# Altium footprint library Seeed-OPL-sensor.PCBLIB: 57 footprints (part 2 of 4)
Each footprint in its own frame and in the unit in brackets; x right, y up, seen from the top. Pads: shape width x height; smd on the part's side, far side on the other; paste and mask are expansions set on the pad; w line width, h text height; cw(c..) or ccw(c..) is an arc to the next point about the centre after c.
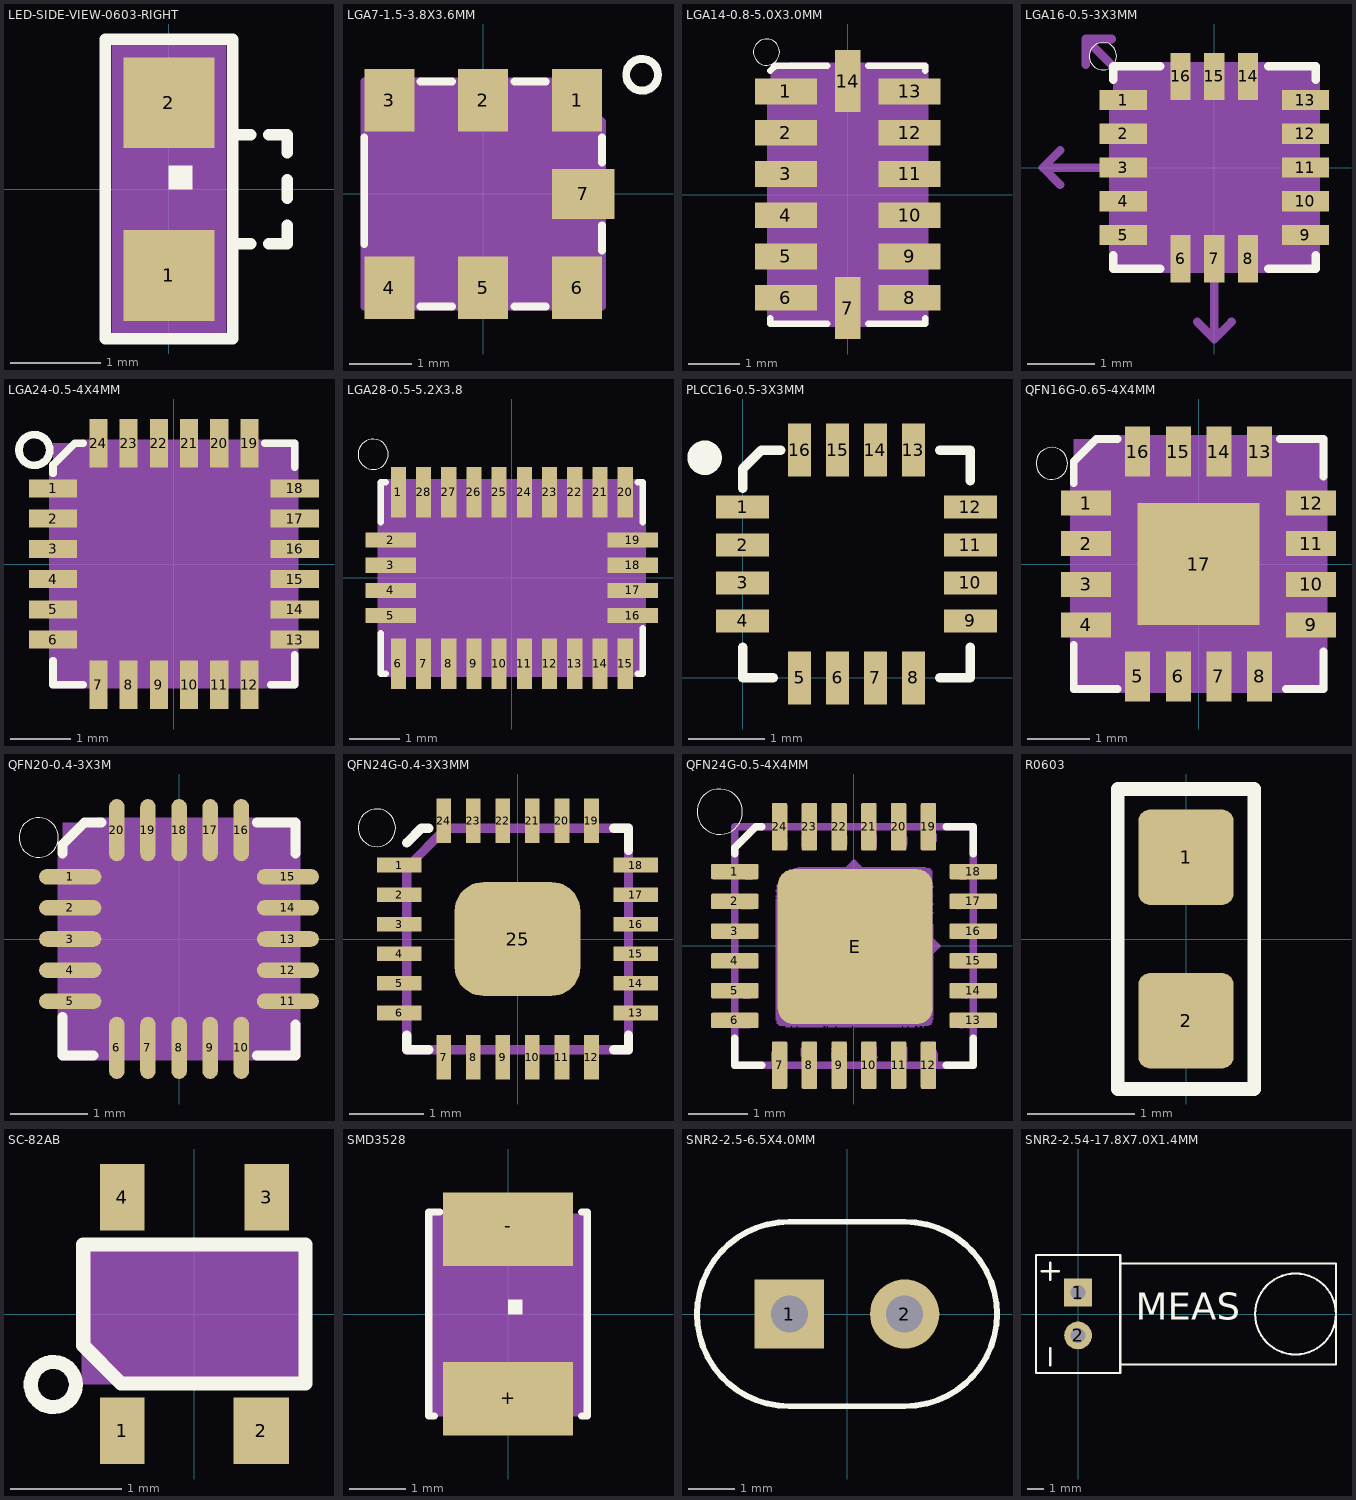
[diagram p1: the footprints below, top view; thin cyan lines are the x and y axes]

## LED-SIDE-VIEW-0603-RIGHT [mm]
pads (2):
  rect 1x1 smd: 1(0,-0.95) 2(0,0.95)
Top Overlay:
  region: 0,0 0.254,0 0.254,0.254 0,0.254
  lines w0.127: 0.7,-0.6 0.9,-0.6 ; 0.7,0.6 0.9,0.6 ; 1.1,-0.6 1.3,-0.6 1.3,-0.4 ; 1.1,0.6 1.3,0.6 1.3,0.4 ; 1.3,-0.1 1.3,0.1 ; -0.7,-1.65 -0.7,1.65 0.7,1.651 0.7,-1.65 -0.7,-1.65
Mechanical 27:
  region: 0.635,-1.651 0.635,1.651 -0.635,1.651 -0.635,-1.651

## LGA7-1.5-3.8X3.6MM [mm]
pads (7):
  rect 0.8x1 smd: 1(1.5,1.5) 2(0,1.5) 3(-1.5,1.5) 4(-1.5,-1.5) 5(0,-1.5) 6(1.5,-1.5)
  rect 1x0.8 smd: 7(1.6,0)
Top Overlay:
  circle w0.127: c2.54,1.905 r0.254
  lines w0.127: -1.9,-0.8 -1.9,0.9 ; -1,-1.8 -0.5,-1.8 ; -1,1.8 -0.5,1.8 ; 0.5,-1.8 1,-1.8 ; 0.5,1.8 1,1.8 ; 1.9,-0.9 1.9,-0.5 ; 1.9,0.5 1.9,0.9
Mechanical 16:
  lines w0.127: -1.9,-1.8 1.9,-1.8 1.9,1.155 1.256,1.8 -1.9,1.8 -1.9,-1.8
Mechanical 27:
  rectangle: -1.9,-1.8 1.9,1.8

## LGA14-0.8-5.0X3.0MM [mm]
pads (14):
  rect 1.2x0.5 smd: 1(-1.2,2) 2(-1.2,1.2) 3(-1.2,0.4) 4(-1.2,-0.4) 5(-1.2,-1.2) 6(-1.2,-2) 8(1.2,-2) 9(1.2,-1.2) 10(1.2,-0.4) 11(1.2,0.4) 12(1.2,1.2) 13(1.2,2)
  rect 0.5x1.2 smd: 7(0,-2.2) 14(0,2.2)
Top Overlay:
  circle w0: c-1.575,2.762 r0.254
  lines w0.127: -1.5,-2.4 -1.5,-2.5 -0.4,-2.5 ; -1.5,2.4 -1.4,2.5 -0.4,2.5 ; 0.4,-2.5 1.5,-2.5 1.5,-2.4 ; 0.4,2.5 1.5,2.5 1.5,2.4
Mechanical 16:
  lines w0.127: -1.5,-2.5 -1.5,2.084 -1.084,2.5 1.5,2.5 1.5,-2.5 -1.5,-2.5
Mechanical 27:
  rectangle: -1.5,-2.5 1.5,2.5

## LGA16-0.5-3X3MM [mm]
pads (16):
  rect 0.7x0.3 smd: 1(-1.35,1) 2(-1.35,0.5) 3(-1.35,0) 4(-1.35,-0.5) 5(-1.35,-1) 9(1.35,-1) 10(1.35,-0.5) 11(1.35,0) 12(1.35,0.5) 13(1.35,1)
  rect 0.3x0.7 smd: 6(-0.5,-1.35) 7(0,-1.35) 8(0.5,-1.35) 14(0.5,1.35) 15(0,1.35) 16(-0.5,1.35)
Top Overlay:
  circle w0: c-1.651,1.651 r0.203
  lines w0.127: -1.5,-1.3 -1.5,-1.5 -0.8,-1.5 ; -1.5,1.3 -1.5,1.5 -0.8,1.5 ; 0.8,-1.5 1.5,-1.5 1.5,-1.3 ; 0.8,1.5 1.5,1.5 1.5,1.3
Mechanical 14:
  lines w0.127: -2.286,-0.254 -2.54,0 ; -2.286,0.254 -2.54,0 ; -1.905,1.524 -1.905,1.905 ; -1.524,1.905 -1.905,1.905 ; -0.254,-2.286 0,-2.54 ; 0.254,-2.286 0,-2.54 ; -2.54,0 0,0 ; -1.905,1.905 0,0 ; 0,-2.54 0,0
  text "X" at -2.54,-1.27 h1.38
  text "Y" at 0.635,-3.175 h1.38
  text "Z" at -3.27,1.905 h1.38
Mechanical 16:
  lines w0.127: -1.5,-1.5 -1.5,0.964 -0.964,1.5 1.5,1.5 1.5,-1.5 -1.5,-1.5
Mechanical 27:
  rectangle: -1.5,-1.5 1.5,1.5

## LGA24-0.5-4X4MM [mm]
pads (24):
  rect 0.8x0.3 smd: 1(-2,1.25) 2(-2,0.75) 3(-2,0.25) 4(-2,-0.25) 5(-2,-0.75) 6(-2,-1.25) 13(2,-1.25) 14(2,-0.75) 15(2,-0.25) 16(2,0.25) 17(2,0.75) 18(2,1.25)
  rect 0.3x0.8 smd: 7(-1.25,-2) 8(-0.75,-2) 9(-0.25,-2) 10(0.25,-2) 11(0.75,-2) 12(1.25,-2) 19(1.25,2) 20(0.75,2) 21(0.25,2) 22(-0.25,2) 23(-0.75,2) 24(-1.25,2)
Top Overlay:
  circle w0.127: c-2.309,1.886 r0.254
  lines w0.127: -2,-1.6 -2,-2 -1.5,-2 ; -2,1.5 -2,1.64 -1.64,2 -1.5,2 ; 1.5,2 2,2 2,1.6 ; 1.6,-2 2,-2 2,-1.5
Mechanical 16:
  lines w0.127: -2,-2 -2,1.5 -1.5,2 2,2 2,-2 -2,-2
Mechanical 27:
  rectangle: -2,-2 2,2

## LGA28-0.5-5.2X3.8 [mm]
pads (28):
  rect 0.3x1 smd: 1(-2.25,1.7) 6(-2.25,-1.7) 7(-1.75,-1.7) 8(-1.25,-1.7) 9(-0.75,-1.7) 10(-0.25,-1.7) 11(0.25,-1.7) 12(0.75,-1.7) 13(1.25,-1.7) 14(1.75,-1.7) 15(2.25,-1.7) 20(2.25,1.7) 21(1.75,1.7) 22(1.25,1.7) 23(0.75,1.7) 24(0.25,1.7) 25(-0.25,1.7) 26(-0.75,1.7) 27(-1.25,1.7) 28(-1.75,1.7)
  rect 1x0.3 smd: 2(-2.4,0.75) 3(-2.4,0.25) 4(-2.4,-0.25) 5(-2.4,-0.75) 16(2.4,-0.75) 17(2.4,-0.25) 18(2.4,0.25) 19(2.4,0.75)
Top Overlay:
  circle w0: c-2.75,2.45 r0.3
  lines w0.127: -2.6,-1.1 -2.6,-1.9 -2.5,-1.9 ; -2.6,1.1 -2.6,1.9 -2.5,1.9 ; 2.5,-1.9 2.6,-1.9 2.6,-1 ; 2.5,1.9 2.6,1.9 2.6,1.1
Mechanical 16:
  lines w0.127: -2.6,-1.9 2.6,-1.9 2.6,1.9 -2.6,1.9 -2.6,-1.9
Mechanical 27:
  rectangle: -2.6,-1.9 2.6,1.9

## PLCC16-0.5-3X3MM [mm]
pads (16):
  rect 0.7x0.3 smd: 1(0,2.25) 2(0,1.75) 3(0,1.25) 4(0,0.75) 9(3,0.75) 10(3,1.25) 11(3,1.75) 12(3,2.25)
  rect 0.3x0.7 smd: 5(0.75,0) 6(1.25,0) 7(1.75,0) 8(2.25,0) 13(2.25,3) 14(1.75,3) 15(1.25,3) 16(0.75,3)
Top Overlay:
  circle w0.254: c-0.5,2.9 r0.1
  lines w0.127: 0,0.4 0,0 0.4,0 ; 0,2.5 0,2.75 0.25,3 0.5,3 ; 2.6,0 3,0 3,0.4 ; 2.6,3 3,3 3,2.6

## QFN16G-0.65-4X4MM [mil]
pads (17):
  rect 31.5x15.75 smd: 1(-70.87,38.39) 2(-70.87,12.8) 3(-70.87,-12.8) 4(-70.87,-38.39) 9(70.87,-38.39) 10(70.87,-12.8) 11(70.87,12.8) 12(70.87,38.39)
  rect 15.75x31.5 smd: 5(-38.39,-70.87) 6(-12.8,-70.87) 7(12.8,-70.87) 8(38.39,-70.87) 13(38.39,70.87) 14(12.8,70.87) 15(-12.8,70.87) 16(-38.39,70.87)
  rect 76.77x76.77 smd: 17(0,0)
Top Overlay:
  circle w0: c-92.52,63.46 r10
  lines w5: -78.74,-51.18 -78.74,-78.74 -51.18,-78.74 ; -78.74,51.18 -78.74,64.55 -64.55,78.74 -51.18,78.74 ; 51.18,78.74 78.74,78.74 78.74,55.12 ; 55.12,-78.74 78.74,-78.74 78.74,-55.12
Mechanical 16:
  lines w5: -78.74,-78.74 78.74,-78.74 78.74,78.74 -53.15,78.74 -78.74,53.15 -78.74,-78.74
Mechanical 27:
  rectangle: -78.74,-78.74 78.74,78.74

## QFN20-0.4-3X3M [mil]
pads (20):
  rrect100% 31.5x7.87 smd: 1(-55.12,31.5) 2(-55.12,15.75) 3(-55.12,0) 4(-55.12,-15.75) 5(-55.12,-31.5) 11(55.12,-31.5) 12(55.12,-15.75) 13(55.12,0) 14(55.12,15.75) 15(55.12,31.5)
  rrect100% 7.87x31.5 smd: 6(-31.5,-55.12) 7(-15.75,-55.12) 8(0,-55.12) 9(15.75,-55.12) 10(31.5,-55.12) 16(31.5,55.12) 17(15.75,55.12) 18(0,55.12) 19(-15.75,55.12) 20(-31.5,55.12)
Top Overlay:
  circle w0: c-71.06,51.38 r10
  lines w5: -59.06,-39.37 -59.06,-59.06 -43.31,-59.06 ; -59.06,43.31 -59.06,47.92 -47.92,59.06 -39.37,59.06 ; 39.37,-59.06 59.06,-59.06 59.06,-43.31 ; 39.37,59.06 59.06,59.06 59.06,43.31
Mechanical 16:
  lines w5: -59.06,-59.06 -59.06,40.86 -40.86,59.06 59.06,59.06 59.06,-59.06 -59.06,-59.06
Mechanical 27:
  rectangle: -59.06,-59.06 59.06,59.06

## QFN24G-0.4-3X3MM [mm]
pads (25):
  rect 0.6x0.2 smd: 1(-1.6,1) 2(-1.6,0.6) 3(-1.6,0.2) 4(-1.6,-0.2) 5(-1.6,-0.6) 6(-1.6,-1) 13(1.6,-1) 14(1.6,-0.6) 15(1.6,-0.2) 16(1.6,0.2) 17(1.6,0.6) 18(1.6,1)
  rect 0.2x0.6 smd: 7(-1,-1.6) 8(-0.6,-1.6) 9(-0.2,-1.6) 10(0.2,-1.6) 11(0.6,-1.6) 12(1,-1.6) 19(1,1.6) 20(0.6,1.6) 21(0.2,1.6) 22(-0.2,1.6) 23(-0.6,1.6) 24(-1,1.6)
  rrect50% 1.7x1.54 smd: 25(0,0)
Top Overlay:
  circle w0: c-1.905,1.505 r0.254
  lines w0.127: -1.5,-1.3 -1.5,-1.5 -1.2,-1.5 ; -1.5,1.3 -1.3,1.5 -1.2,1.5 ; 1.3,-1.5 1.5,-1.5 1.5,-1.3 ; 1.3,1.5 1.5,1.5 1.5,1.2
Mechanical 16:
  lines w0.127: -1.5,-1.5 -1.5,0.964 -0.964,1.5 1.5,1.5 1.5,-1.5 -1.5,-1.5

## QFN24G-0.5-4X4MM [mm]
pads (25):
  rrect20% 0.8x0.26 smd: 1(-2,1.25) 2(-2,0.75) 3(-2,0.25) 4(-2,-0.25) 5(-2,-0.75) 6(-2,-1.25) 13(2,-1.25) 14(2,-0.75) 15(2,-0.25) 16(2,0.25) 17(2,0.75) 18(2,1.25)
  rrect20% 0.26x0.8 smd: 7(-1.25,-2) 8(-0.75,-2) 9(-0.25,-2) 10(0.25,-2) 11(0.75,-2) 12(1.25,-2) 19(1.25,2) 20(0.75,2) 21(0.25,2) 22(-0.25,2) 23(-0.75,2) 24(-1.25,2)
  rrect20% 2.6x2.6 smd: E(0.02,-0.01)
Top Overlay:
  circle w0: c-2.254,2.254 r0.381
  lines w0.127: -2,-1.55 -2,-2 -1.55,-2 ; -2,1.55 -2,1.649 -1.649,2 -1.55,2 ; 1.55,-2 2,-2 2,-1.55 ; 1.55,2 2,2 2,1.55
Top Paste:
  rectangle: -1.016,0.254 -0.254,1.016
  rectangle: 0.254,0.254 1.016,1.016
  rectangle: -1.016,-1.016 -0.254,-0.254
  rectangle: 0.254,-1.016 1.016,-0.254
Mechanical 16:
  circle w0.1: c0,0 r0.2
  lines w0.1: -0.3,0.7 cw(c0,0.65) 0.3,0.7 ; -0.2,1.2 0,1.4 ; 0,0.2 0,1.4 ; 0.2,0 1.4,0 ; 0.2,0.7 0.3,0.7 ; 0.2,1.2 0,1.4 ; 0.4,0.8 0.3,0.7 ; 0.7,-0.2 0.7,-0.3 ; 0.7,0.3 cw(c0.65,0) 0.7,-0.3 ; 0.8,-0.4 0.7,-0.3 ; 1.2,-0.2 1.4,0 ; 1.2,0.2 1.4,0
  lines w0.127: -2,-2 2,-2 2,2 -2,2 -2,-2
  text "Y" at -0.6,1 h0.39
  text "X" at 1.1,0.4 h0.39
  text "Z" at -0.1,-0.6 h0.39
Mech87:
  drawing of 620 lines, arcs and shapes, not listed
  text "C:/Documents and Settings/jbartlett/Desktop/mpu-6050.bmp" at -1.983,-2.105 h0.03

## R0603 [mil]
pads (2):
  rrect25% 35x35 smd: 1(0,30) 2(0,-30)
Top Overlay:
  lines w5: -25,-55 25,-55 25,55 -25,55 -25,-55

## SC-82AB [mm]
pads (4):
  rect 0.4x0.6 smd: 1(-0.65,-1.05) 3(0.65,1.05) 4(-0.65,1.05)
  rect 0.5x0.6 smd: 2(0.6,-1.05)
Top Overlay:
  circle w0.127: c-1.27,-0.635 r0.203
  lines w0.127: -1,-0.284 -0.659,-0.625 1,-0.625 1,0.625 -1,0.625 -1,-0.284
Mechanical 27:
  rectangle: -1.016,-0.635 1.016,0.635

## SMD3528 [mm]
pads (2):
  rect 2.3x1.3 smd: +(0,-1.5) -(0,1.5)
Top Overlay:
  region: 0,0 0.254,0 0.254,0.254 0,0.254
  lines w0.127: -1.3,-1.8 -1.4,-1.8 -1.4,1.8 -1.2,1.8 ; 1.3,-1.8 1.4,-1.8 1.4,1.8 1.3,1.8
Mechanical 16:
  lines w0.127: -1.4,-1.75 1.4,-1.75 1.4,1.032 0.682,1.75 -1.4,1.75 -1.4,-1.75
Mechanical 27:
  rectangle: -1.397,-1.778 1.397,1.778

## SNR2-2.5-6.5X4.0MM [mil]
pads (2):
  rect 59.06x59.06 hole 31.5: 1(-49.21,0)
  round 59.06 hole 31.5: 2(49.21,0)
Top Overlay:
  lines w5: -127.95,0 ccw(c-49.21,0) -49.21,-78.74 49.21,-78.74 ccw(c49.21,0) 127.95,0 ccw(c49.21,0) 49.21,78.74 -49.21,78.74 ccw(c-49.21,0) -127.95,0

## SNR2-2.54-17.8X7.0X1.4MM [mil]
pads (2):
  rect 65x65 hole 35: 1(0,50)
  round 65 hole 35: 2(0,-50)
Top Overlay:
  circle w5: c507.87,0 r94.49
  lines w5: -85,100 -65,100 ; -65,-120 -65,-80 ; -65,80 -65,100 ; -65,120 -65,100 ; -45,100 -65,100 ; 98.43,-118.11 98.43,-137.8 -98.43,-137.8 -98.43,137.8 98.43,137.8 98.43,118.11 ; 98.43,-118.11 98.43,118.11 ; 98.43,-118.11 602.36,-118.11 602.36,118.11 98.43,118.11
  text "MEAS" at 135,-35 h108.5